# Altium integrated library Brillz4Components.IntLib: 10 symbols
Pins are listed as number, name and electrical type; pins without a type are passive.

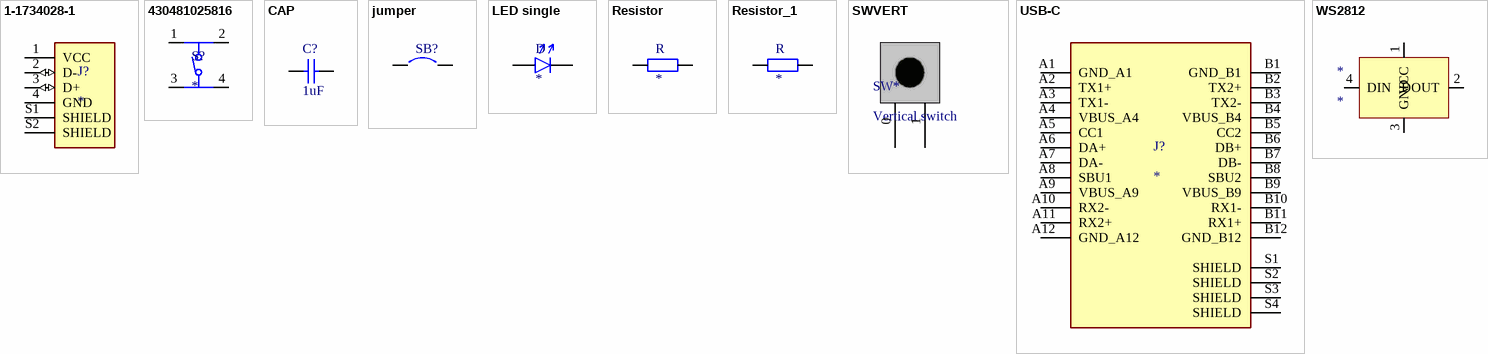
[diagram p0: symbols 1-1734028-1 to WS2812]

## 1-1734028-1
designator J?
Conn USB 2.0 Type A PL 4 POS Solder RA SMD 4 Terminal 1 Port T/R; MP: 1-1734028-1; MF: {'manufacturer': u'TE Connectivity'}; Package: None; Price: None; Value: *; Availability: Unavailable
footprint TE_1-1734028-1
pins: 1 VCC (power), 2 D- (io), 3 D+ (io), 4 GND (power), S1 SHIELD (power), S2 SHIELD (power)

## 430481025816
designator S?
<b>WS-TASV SMT Washable Tact Switch 6x6 mm  </B><BR><BR> <B>Material Properties</B> <BR> <BR>Cover Material : Stainless Steel <BR><BR> <B>Properties</B><BR> <BR>Actuator Material:LCP <BR>Actuator Flammability :UL94 V-0 <BR>Rating <BR>Actuator Color:Black; Salmon; White <BR>Contact Material:Stainless Steel <BR>Contact Plating:Silver <BR>Terminal Plating:Silver <BR>VR:12 V (DC) <BR>RISO:100 MÎ© <BR>Withstanding Voltage:250 V (AC) <BR>Washable:Yes <BR>Qty.:2000 <BR> <BR> <b>Mechanical Properties</b><BR> <BR>Stroke :0.25 mm<BR> <BR><b>General Information</b><br> <br>Operating Temperature:-40 up to +85 Â°C <BR>Washable:Yes <BR> <BR><b>Packaging Properties</b><br> <BR>Packaging:Tape and Reel  </b><br><BR>  <br><a href="https://www.we-online.com/catalog/media/o37542v209%20Family_WS-TASV_SMD_Tact_Switch_6x6mm_4304810xx8xx.jpg" title="Enlarge picture"> <img src="https://www.we-online.com/catalog/media/o37542v209%20Family_WS-TASV_SMD_Tact_Switch_6x6mm_4304810xx8xx.jpg"  width="320"></a><p>  Details see: <a href="https://www.we-online.com/catalog/en/TASV_6X6_SMD_WASHABLE/">https://www.we-online.com/catalog/en/TASV_6X6_SMD_WASHABLE/</a><p>  Updated by Ella Wu 2021-02-23 <br>2021(C) WÃ¼rth Elektronik; MP: 430481025816; MF: {'manufacturer': u'Wurth Elektronik'}; Price: None; Package: None; Availability: Unavailable; Value: *
footprint 430481025816
pins: 1, 2, 3, 4

## CAP
designator C?, comment 1uF
Value: 1µF; Rated voltage: 25V; Tolerance: 10%; Manufacturer: *; Manufacturer P/N: *; Order code Farnell: 1288202RL; Power: *; Technology: X5R; Temperature  Factor: *; Temperature Max: +125°C; Temperature Min: -55°C; STS Code: *
footprint CAP1206 (Chip Capacitor, 2-Leads, Body 3,10x1,60mm, IPC Low Density)
footprint CAP0603
pins: 1, 2

## jumper
designator SB?
footprint smd jumper
pins: 1, 2

## LED single
designator D
footprint LED0805
pins: 1 A, 2

## Resistor
designator R
footprint RES1206 (Chip Resistor, 2-Leads, Body 3,10x1,60mm, IPC Low Density)
footprint RES0805
pins: 1, 2

## Resistor_1
designator R
footprint RES1206 (Chip Resistor, 2-Leads, Body 3,10x1,60mm, IPC Low Density)
footprint RES0805
pins: 1, 2

## SWVERT
designator SW*, comment Vertical switch
footprint Btn_Vert (Vertical 6x6mm button)
pins: 0, 1

## USB-C
designator J?
Conn Rcpt Usb3.1 Typec Smd Vert; MF: {'manufacturer': u'JAE Electronics'}; MP: DX07S024WJ3R400; Price: None; Package: None; Value: *; Availability: Unavailable
footprint JAE_DX07S024WJ3R400
footprint USB_C_Receptacle_Amphenol_12401548E4-2A
pins: A1 GND_A1, A2 TX1+, A3 TX1-, A4 VBUS_A4, A5 CC1, A6 DA+, A7 DA-, A8 SBU1, A9 VBUS_A9, A10 RX2-, A11 RX2+, A12 GND_A12, B1 GND_B1, B2 TX2+, B3 TX2-, B4 VBUS_B4, B5 CC2, B6 DB+, B7 DB-, B8 SBU2, B9 VBUS_B9, B10 RX1-, B11 RX1+, B12 GND_B12, S1 SHIELD, S2 SHIELD, S3 SHIELD, S4 SHIELD

## WS2812
designator *
footprint WS2812B-Mini
pins: 1 VCC, 2 DOUT, 3 GND, 4 DIN